# Altium footprint library CASE-E.PcbLib: 1 footprints
Each footprint in its own frame and in the unit in brackets; x right, y up, seen from the top. Pads: shape width x height; smd on the part's side, far side on the other; paste and mask are expansions set on the pad; w line width, h text height; cw(c..) or ccw(c..) is an arc to the next point about the centre after c.
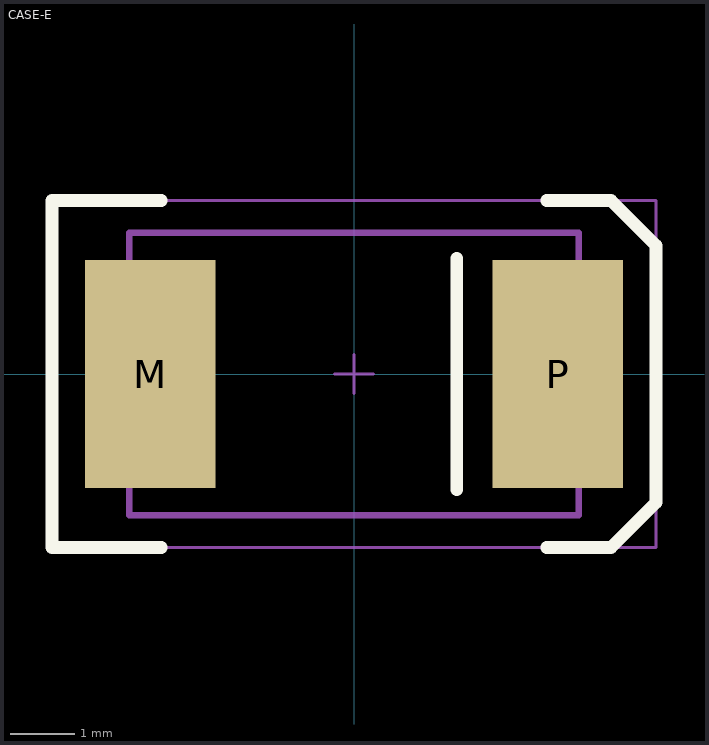
[diagram p0: the footprint, top view; thin cyan lines are the x and y axes]

## CASE-E [mil]
height 94.49
pads (2):
  rect 80x140 smd: M(-125,0) P(125,0)
TopOverlay:
  lines w7.87: -118.11,-106.3 -185.04,-106.3 -185.04,106.3 -118.11,106.3 ; 62.99,-70.87 62.99,70.87 ; 118.11,-106.3 157.48,-106.3 185.04,-78.74 185.04,78.74 157.48,106.3 118.11,106.3
Mechanical13:
  lines w3.94: -137.8,-47.24 -149.61,-47.24 -149.61,47.24 -137.8,47.24 ; 137.8,-47.24 149.61,-47.24 149.61,47.24 137.8,47.24 ; -137.8,-86.61 137.8,-86.61 137.8,86.61 -137.8,86.61 -137.8,-86.61
Mechanical15:
  lines w1.97: -11.81,0 11.81,0 ; 0,-11.81 0,11.81 ; -185.04,-106.3 185.04,-106.3 185.04,106.3 -185.04,106.3 -185.04,-106.3
3D body: height 62.99, standoff 0, extent 137.82,-47.22 149.59,47.22
3D body: height 94.49, standoff 0, extent -137.78,-86.59 137.78,86.59
3D body: height 62.99, standoff 0, extent -149.59,-47.22 -137.82,47.22